# Altium footprint library PCB - DIODES - SOD523F.PCBLIB: 1 footprints
Each footprint in its own frame and in the unit in brackets; x right, y up, seen from the top. Pads: shape width x height; smd on the part's side, far side on the other; paste and mask are expansions set on the pad; w line width, h text height; cw(c..) or ccw(c..) is an arc to the next point about the centre after c.
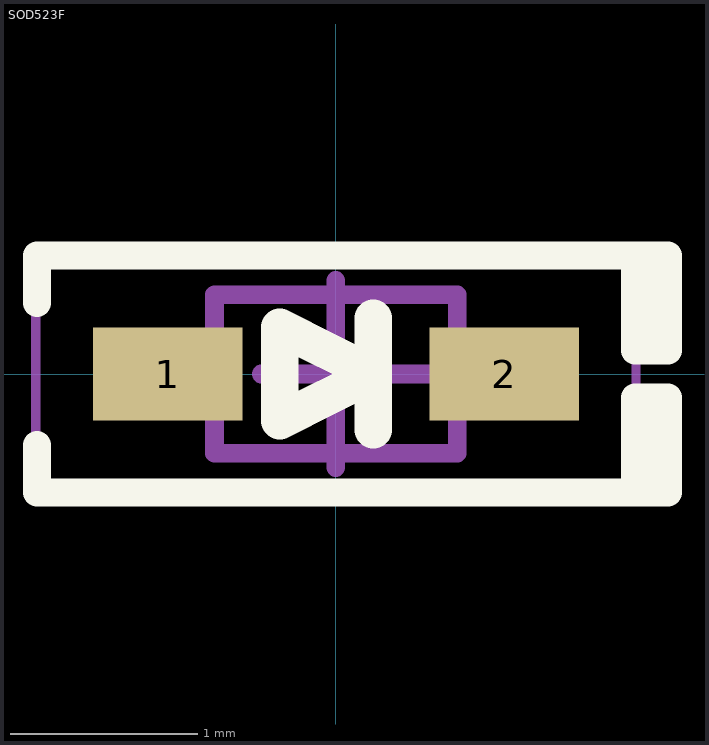
[diagram p0: the footprint, top view; thin cyan lines are the x and y axes]

## SOD523F [mm] "SODFL, 2-Leads, Body 0.80x1.60mm, IPC Medium Density"
height 0.77
pads (2):
  rect 0.8x0.5 smd: 1(-0.9,0) 2(0.9,0)
Top Overlay:
  rectangle: 1.6,-0.6 1.8,-0.127
  rectangle: 1.6,0.127 1.778,0.635
  lines w0.15: -1.6,-0.381 -1.6,-0.635 1.651,-0.635 ; -1.6,0.381 -1.6,0.635 1.651,0.635 ; 1.6,-0.635 1.6,-0.127 1.778,-0.127 1.778,-0.635 1.6,-0.635 ; 1.6,0.127 1.778,0.127 1.778,0.635 1.6,0.635 1.6,0.127
  lines w0.2: 0.2,-0.3 0.2,0.3 ; -0.3,-0.25 0.2,0 -0.3,0.25 -0.3,-0.1 -0.3,-0.25
Mechanical 13:
  lines w0.1: -0.65,-0.425 0.65,-0.425 0.65,0.425 -0.65,0.425 -0.65,-0.425
Mechanical 15:
  lines w0.05: -1.606,-0.6 1.606,-0.6 1.606,0.6 -1.606,0.6 -1.606,-0.6
2:
  lines w0.1: -0.4,0 0.6,0 ; 0,-0.5 0,0.5
3D body "SOD523F.STEP": height 0.65, standoff 0, extent -0.8,-0.4 0.8,0.4